# EAGLE library part 104809-06 (library con-tyco-modu)
HEADER
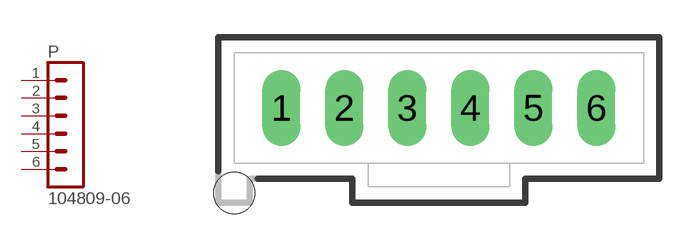
[diagram p47: symbol with the pads of 104809-06; footprint 104809-06]

Designator prefix P

## 104809-06  [104809-06]
1  1  pas
2  2  pas
3  3  pas
4  4  pas
5  5  pas
6  6  pas

## Footprint 104809-06 (pad centres in mm)
HEADER
drill 1.016 long: 1 -6.35,0; 2 -3.81,0; 3 -1.27,0; 4 1.27,0; 5 3.81,0; 6 6.35,0
hole 1.651 at -8.255,-3.429